# Altium schematic symbol library Converter_ACDC.SchLib: 233 symbols (part 2 of 3)
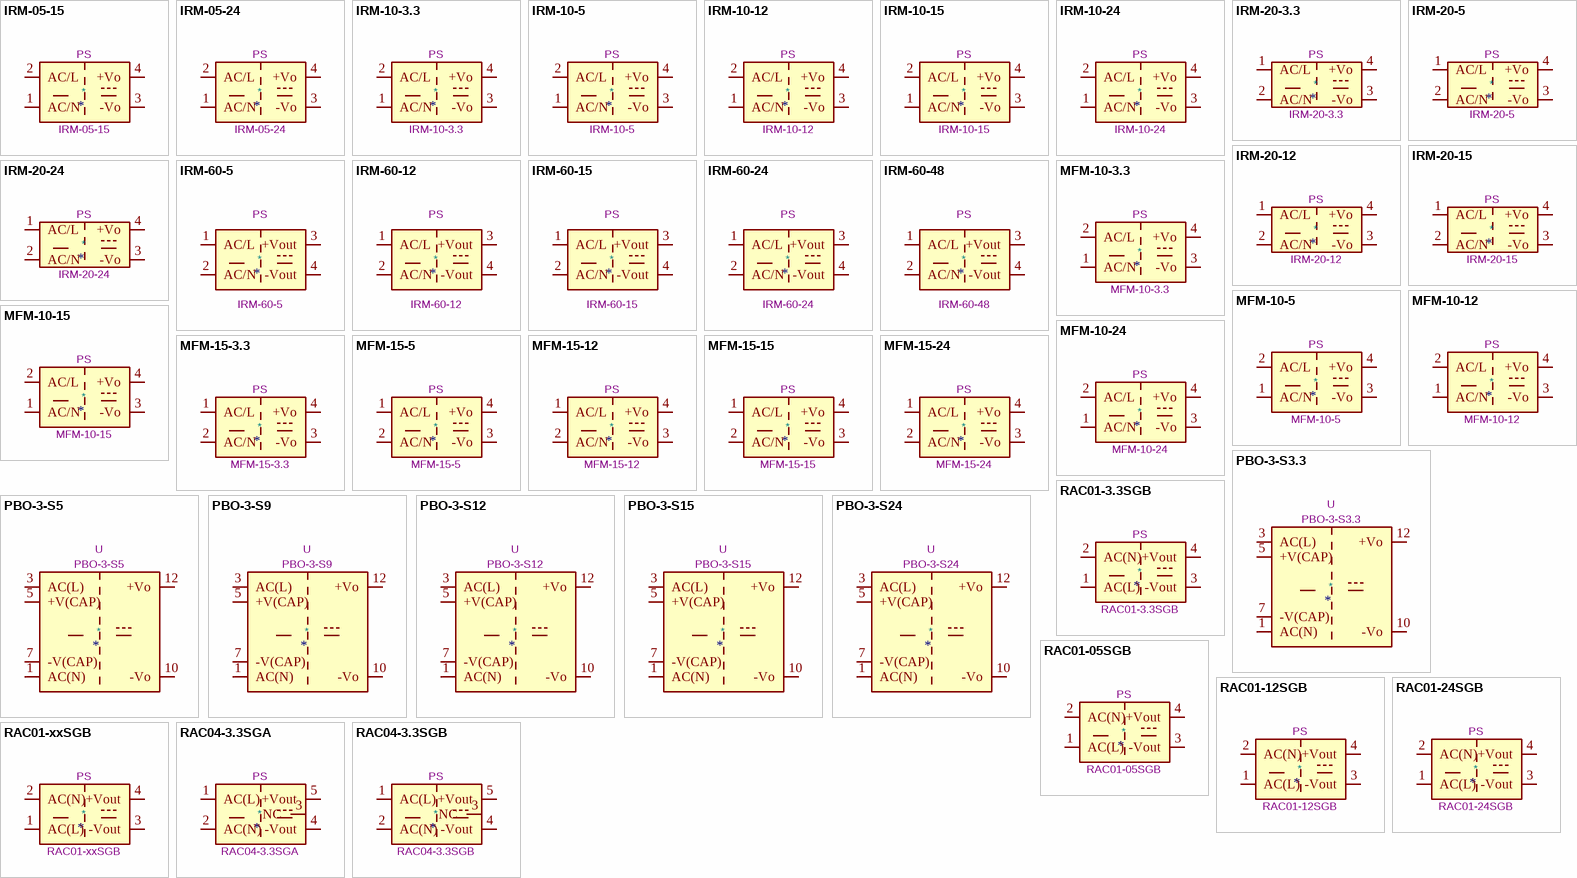
[diagram p6: symbols IRM-05-15 to RAC04-3.3SGB]

## MFM-10-5
designator *  value MFM-10-5  Reference: PS
Meanwell AC/DC converter, 80-264VAC, output 5V, 10 watts; ki_keywords: Miniature Module-type Power Supply MeanWell; ki_fp_filters: Converter*ACDC*MeanWell*MFM*10*THT*; Footprint: Converter_ACDC:Converter_ACDC_MeanWell_MFM-10-xx_THT; Datasheet: https://www.meanwell-web.com/content/files/pdfs/productPdfs/MW/MFM-10/MFM-10-spec.pdf; Description_: Meanwell AC/DC converter, 80-264VAC, output 5V, 10 watts
pins: 1 AC/N, 2 AC/L, 3 -Vo, 4 +Vo

## MFM-10-12
designator *  value MFM-10-12  Reference: PS
Meanwell AC/DC converter, 80-264VAC, output 12V, 10 watts; ki_keywords: Miniature Module-type Power Supply MeanWell; ki_fp_filters: Converter*ACDC*MeanWell*MFM*10*THT*; Footprint: Converter_ACDC:Converter_ACDC_MeanWell_MFM-10-xx_THT; Datasheet: https://www.meanwell-web.com/content/files/pdfs/productPdfs/MW/MFM-10/MFM-10-spec.pdf; Description_: Meanwell AC/DC converter, 80-264VAC, output 12V, 10 watts
pins: 1 AC/N, 2 AC/L, 3 -Vo, 4 +Vo

## MFM-10-15
designator *  value MFM-10-15  Reference: PS
Meanwell AC/DC converter, 80-264VAC, output 15V, 10 watts; ki_keywords: Miniature Module-type Power Supply MeanWell; ki_fp_filters: Converter*ACDC*MeanWell*MFM*10*THT*; Footprint: Converter_ACDC:Converter_ACDC_MeanWell_MFM-10-xx_THT; Datasheet: https://www.meanwell-web.com/content/files/pdfs/productPdfs/MW/MFM-10/MFM-10-spec.pdf; Description_: Meanwell AC/DC converter, 80-264VAC, output 15V, 10 watts
pins: 1 AC/N, 2 AC/L, 3 -Vo, 4 +Vo

## MFM-10-24
designator *  value MFM-10-24  Reference: PS
Meanwell AC/DC converter, 80-264VAC, output 24V, 10 watts; ki_keywords: Miniature Module-type Power Supply MeanWell; ki_fp_filters: Converter*ACDC*MeanWell*MFM*10*THT*; Footprint: Converter_ACDC:Converter_ACDC_MeanWell_MFM-10-xx_THT; Datasheet: https://www.meanwell-web.com/content/files/pdfs/productPdfs/MW/MFM-10/MFM-10-spec.pdf; Description_: Meanwell AC/DC converter, 80-264VAC, output 24V, 10 watts
pins: 1 AC/N, 2 AC/L, 3 -Vo, 4 +Vo

## MFM-15-3.3
designator *  value MFM-15-3.3  Reference: PS
Meanwell AC/DC converter, 80-264VAC, output 3.3V, 15 watts; ki_keywords: Miniature Module-type Power Supply MeanWell; ki_fp_filters: Converter*ACDC*MeanWell*MFM*15*THT*; Footprint: Converter_ACDC:Converter_ACDC_MeanWell_MFM-15-xx_THT; Datasheet: https://www.meanwell.com/Upload/PDF/MFM-15/MFM-15-SPEC.PDF; Description_: Meanwell AC/DC converter, 80-264VAC, output 3.3V, 15 watts
pins: 1 AC/L, 2 AC/N, 3 -Vo, 4 +Vo

## MFM-15-5
designator *  value MFM-15-5  Reference: PS
Meanwell AC/DC converter, 80-264VAC, output 5V, 15 watts; ki_keywords: Miniature Module-type Power Supply MeanWell; ki_fp_filters: Converter*ACDC*MeanWell*MFM*15*THT*; Footprint: Converter_ACDC:Converter_ACDC_MeanWell_MFM-15-xx_THT; Datasheet: https://www.meanwell.com/Upload/PDF/MFM-15/MFM-15-SPEC.PDF; Description_: Meanwell AC/DC converter, 80-264VAC, output 5V, 15 watts
pins: 1 AC/L, 2 AC/N, 3 -Vo, 4 +Vo

## MFM-15-12
designator *  value MFM-15-12  Reference: PS
Meanwell AC/DC converter, 80-264VAC, output 12V, 15 watts; ki_keywords: Miniature Module-type Power Supply MeanWell; ki_fp_filters: Converter*ACDC*MeanWell*MFM*15*THT*; Footprint: Converter_ACDC:Converter_ACDC_MeanWell_MFM-15-xx_THT; Datasheet: https://www.meanwell.com/Upload/PDF/MFM-15/MFM-15-SPEC.PDF; Description_: Meanwell AC/DC converter, 80-264VAC, output 12V, 15 watts
pins: 1 AC/L, 2 AC/N, 3 -Vo, 4 +Vo

## MFM-15-15
designator *  value MFM-15-15  Reference: PS
Meanwell AC/DC converter, 80-264VAC, output 15V, 15 watts; ki_keywords: Miniature Module-type Power Supply MeanWell; ki_fp_filters: Converter*ACDC*MeanWell*MFM*15*THT*; Footprint: Converter_ACDC:Converter_ACDC_MeanWell_MFM-15-xx_THT; Datasheet: https://www.meanwell.com/Upload/PDF/MFM-15/MFM-15-SPEC.PDF; Description_: Meanwell AC/DC converter, 80-264VAC, output 15V, 15 watts
pins: 1 AC/L, 2 AC/N, 3 -Vo, 4 +Vo

## MFM-15-24
designator *  value MFM-15-24  Reference: PS
Meanwell AC/DC converter, 80-264VAC, output 24V, 15 watts; ki_keywords: Miniature Module-type Power Supply MeanWell; ki_fp_filters: Converter*ACDC*MeanWell*MFM*15*THT*; Footprint: Converter_ACDC:Converter_ACDC_MeanWell_MFM-15-xx_THT; Datasheet: https://www.meanwell.com/Upload/PDF/MFM-15/MFM-15-SPEC.PDF; Description_: Meanwell AC/DC converter, 80-264VAC, output 24V, 15 watts
pins: 1 AC/L, 2 AC/N, 3 -Vo, 4 +Vo

## PBO-3-S3.3
designator *  value PBO-3-S3.3  Reference: U
3.3V 0.6A 1.98W miniature AC-DC module-type power supply; ki_keywords: ac dc power supply; ki_fp_filters: Converter*ACDC*CUI*PBO*3*Sxx*THT*; Footprint: Converter_ACDC:Converter_ACDC_CUI_PBO-3-Sxx_THT_Vertical; Datasheet: https://www.cui.com/product/resource/pbo-3.pdf; Description_: 3.3V 0.6A 1.98W miniature AC-DC module-type power supply
pins: 1 AC(N), 3 AC(L), 5 +V(CAP), 7 -V(CAP), 10 -Vo, 12 +Vo

## PBO-3-S5
designator *  value PBO-3-S5  Reference: U
5V 0.6A 3W miniature AC-DC module-type power supply; ki_keywords: ac dc power supply; ki_fp_filters: Converter*ACDC*CUI*PBO*3*Sxx*THT*; Footprint: Converter_ACDC:Converter_ACDC_CUI_PBO-3-Sxx_THT_Vertical; Datasheet: https://www.cui.com/product/resource/pbo-3.pdf; Description_: 5V 0.6A 3W miniature AC-DC module-type power supply
pins: 1 AC(N), 3 AC(L), 5 +V(CAP), 7 -V(CAP), 10 -Vo, 12 +Vo

## PBO-3-S9
designator *  value PBO-3-S9  Reference: U
9V 0.333A 3W miniature AC-DC module-type power supply; ki_keywords: ac dc power supply; ki_fp_filters: Converter*ACDC*CUI*PBO*3*Sxx*THT*; Footprint: Converter_ACDC:Converter_ACDC_CUI_PBO-3-Sxx_THT_Vertical; Datasheet: https://www.cui.com/product/resource/pbo-3.pdf; Description_: 9V 0.333A 3W miniature AC-DC module-type power supply
pins: 1 AC(N), 3 AC(L), 5 +V(CAP), 7 -V(CAP), 10 -Vo, 12 +Vo

## PBO-3-S12
designator *  value PBO-3-S12  Reference: U
12V 0.25A 3W miniature AC-DC module-type power supply; ki_keywords: ac dc power supply; ki_fp_filters: Converter*ACDC*CUI*PBO*3*Sxx*THT*; Footprint: Converter_ACDC:Converter_ACDC_CUI_PBO-3-Sxx_THT_Vertical; Datasheet: https://www.cui.com/product/resource/pbo-3.pdf; Description_: 12V 0.25A 3W miniature AC-DC module-type power supply
pins: 1 AC(N), 3 AC(L), 5 +V(CAP), 7 -V(CAP), 10 -Vo, 12 +Vo

## PBO-3-S15
designator *  value PBO-3-S15  Reference: U
15V 0.2A 3W miniature AC-DC module-type power supply; ki_keywords: ac dc power supply; ki_fp_filters: Converter*ACDC*CUI*PBO*3*Sxx*THT*; Footprint: Converter_ACDC:Converter_ACDC_CUI_PBO-3-Sxx_THT_Vertical; Datasheet: https://www.cui.com/product/resource/pbo-3.pdf; Description_: 15V 0.2A 3W miniature AC-DC module-type power supply
pins: 1 AC(N), 3 AC(L), 5 +V(CAP), 7 -V(CAP), 10 -Vo, 12 +Vo

## PBO-3-S24
designator *  value PBO-3-S24  Reference: U
24V 0.125A 3W miniature AC-DC module-type power supply; ki_keywords: ac dc power supply; ki_fp_filters: Converter*ACDC*CUI*PBO*3*Sxx*THT*; Footprint: Converter_ACDC:Converter_ACDC_CUI_PBO-3-Sxx_THT_Vertical; Datasheet: https://www.cui.com/product/resource/pbo-3.pdf; Description_: 24V 0.125A 3W miniature AC-DC module-type power supply
pins: 1 AC(N), 3 AC(L), 5 +V(CAP), 7 -V(CAP), 10 -Vo, 12 +Vo

## RAC01-3.3SGB
designator *  value RAC01-3.3SGB  Reference: PS
1 Watt Single Output EMC Class B AC/DC 3.3V 303mA power supply with regulated and short-circuit-proof isolated DC outputs and low standby power consumption.; ki_keywords: ac dc power supply; ki_fp_filters: Converter*ACDC*RECOM*RAC01*SGB*THT*; Footprint: Converter_ACDC:Converter_ACDC_RECOM_RAC01-xxSGB_THT; Datasheet: https://www.recom-power.com/pdf/Powerline-AC-DC/RAC01-GB.pdf; Description_: 1 Watt Single Output EMC Class B AC/DC 3.3V 303mA power supply with regulated and short-circuit-proof isolated DC outputs and low standby power consumption.
pins: 1 AC(L), 2 AC(N), 3 -Vout, 4 +Vout

## RAC01-05SGB
designator *  value RAC01-05SGB  Reference: PS
1 Watt Single Output EMC Class B AC/DC 5V 200mA power supply with regulated and short-circuit-proof isolated DC outputs and low standby power consumption.; ki_keywords: ac dc power supply; ki_fp_filters: Converter*ACDC*RECOM*RAC01*SGB*THT*; Footprint: Converter_ACDC:Converter_ACDC_RECOM_RAC01-xxSGB_THT; Datasheet: https://www.recom-power.com/pdf/Powerline-AC-DC/RAC01-GB.pdf; Description_: 1 Watt Single Output EMC Class B AC/DC 5V 200mA power supply with regulated and short-circuit-proof isolated DC outputs and low standby power consumption.
pins: 1 AC(L), 2 AC(N), 3 -Vout, 4 +Vout

## RAC01-12SGB
designator *  value RAC01-12SGB  Reference: PS
1 Watt Single Output EMC Class B AC/DC 12V 83mA power supply with regulated and short-circuit-proof isolated DC outputs and low standby power consumption.; ki_keywords: ac dc power supply; ki_fp_filters: Converter*ACDC*RECOM*RAC01*SGB*THT*; Footprint: Converter_ACDC:Converter_ACDC_RECOM_RAC01-xxSGB_THT; Datasheet: https://www.recom-power.com/pdf/Powerline-AC-DC/RAC01-GB.pdf; Description_: 1 Watt Single Output EMC Class B AC/DC 12V 83mA power supply with regulated and short-circuit-proof isolated DC outputs and low standby power consumption.
pins: 1 AC(L), 2 AC(N), 3 -Vout, 4 +Vout

## RAC01-24SGB
designator *  value RAC01-24SGB  Reference: PS
1 Watt Single Output EMC Class B AC/DC 24V 42mA power supply with regulated and short-circuit-proof isolated DC outputs and low standby power consumption.; ki_keywords: ac dc power supply; ki_fp_filters: Converter*ACDC*RECOM*RAC01*SGB*THT*; Footprint: Converter_ACDC:Converter_ACDC_RECOM_RAC01-xxSGB_THT; Datasheet: https://www.recom-power.com/pdf/Powerline-AC-DC/RAC01-GB.pdf; Description_: 1 Watt Single Output EMC Class B AC/DC 24V 42mA power supply with regulated and short-circuit-proof isolated DC outputs and low standby power consumption.
pins: 1 AC(L), 2 AC(N), 3 -Vout, 4 +Vout

## RAC01-xxSGB
designator *  value RAC01-xxSGB  Reference: PS
1 Watt Single Output EMC Class B AC/DC power supply with regulated and short-circuit-proof isolated DC outputs and low standby power consumption.; ki_keywords: ac dc power supply; ki_fp_filters: Converter*ACDC*RECOM*RAC01*SGB*THT*; Footprint: Converter_ACDC:Converter_ACDC_RECOM_RAC01-xxSGB_THT; Datasheet: https://www.recom-power.com/pdf/Powerline-AC-DC/RAC01-GB.pdf; Description_: 1 Watt Single Output EMC Class B AC/DC power supply with regulated and short-circuit-proof isolated DC outputs and low standby power consumption.
pins: 1 AC(L), 2 AC(N), 3 -Vout, 4 +Vout

## RAC04-3.3SGA
designator *  value RAC04-3.3SGA  Reference: PS
4 Watt Single Output EMC Class A - 3.3V 1210mA; ki_keywords: ac dc power supply; ki_fp_filters: Converter*ACDC*RECOM*RAC04*SG*; Footprint: Converter_ACDC:Converter_ACDC_RECOM_RAC04-xxSGx_THT; Datasheet: https://www.recom-power.com/pdf/Powerline-AC-DC/RAC04-GA.pdf; Description_: 4 Watt Single Output EMC Class A - 3.3V 1210mA
pins: 1 AC(L), 2 AC(N), 3 NC, 4 -Vout, 5 +Vout

## RAC04-3.3SGB
designator *  value RAC04-3.3SGB  Reference: PS
4 Watt Single Output EMC Class B - 3.3V 1210mA; ki_keywords: ac dc power supply; ki_fp_filters: Converter*ACDC*RECOM*RAC04*SG*; Footprint: Converter_ACDC:Converter_ACDC_RECOM_RAC04-xxSGx_THT; Datasheet: https://www.recom-power.com/pdf/Powerline-AC-DC/RAC04-GB.pdf; Description_: 4 Watt Single Output EMC Class B - 3.3V 1210mA
pins: 1 AC(L), 2 AC(N), 3 NC, 4 -Vout, 5 +Vout

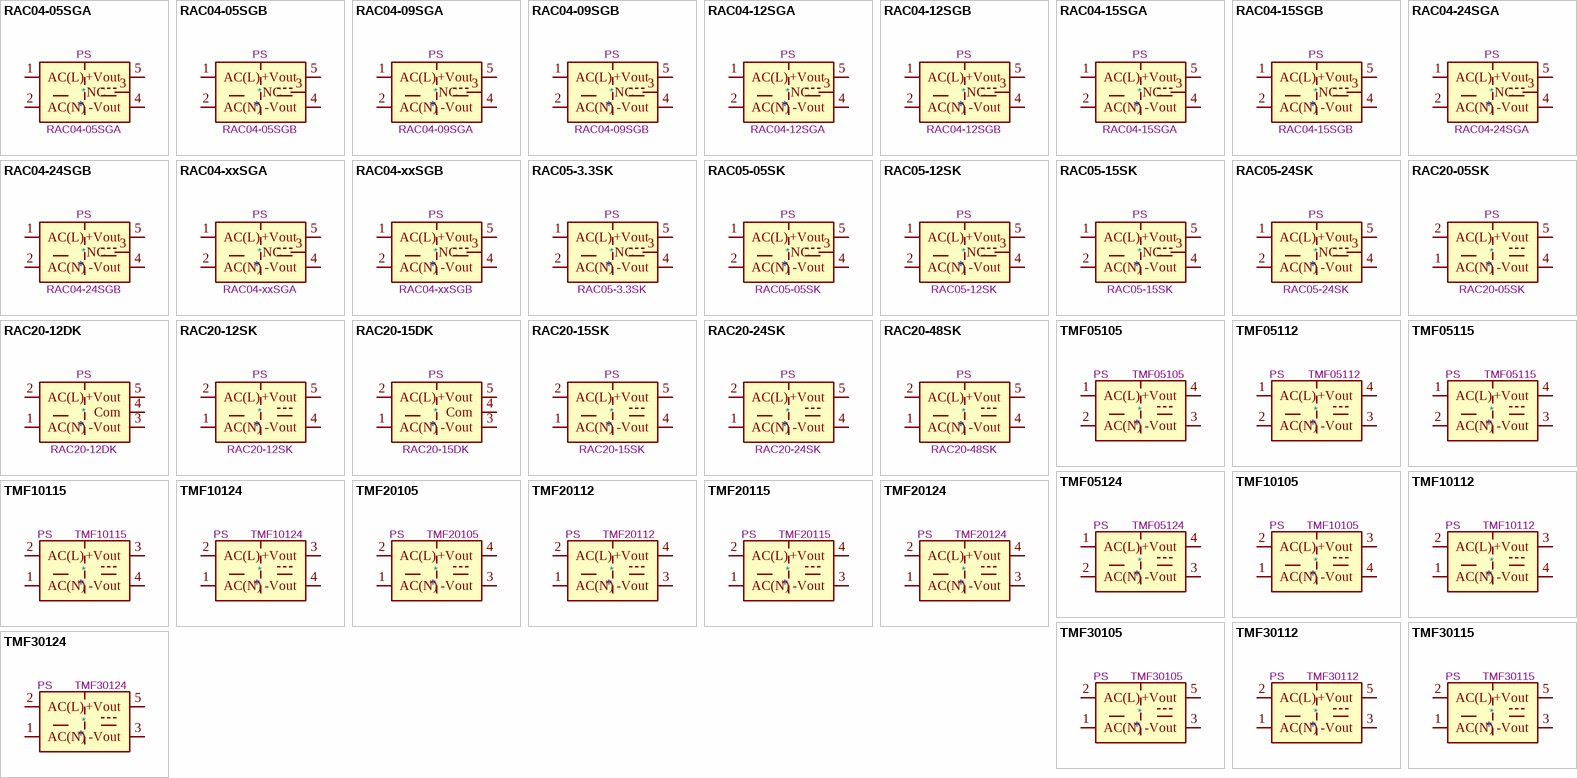
[diagram p3: symbols RAC04-05SGA to TMF30124]

## RAC04-05SGA
designator *  value RAC04-05SGA  Reference: PS
4 Watt Single Output EMC Class A - 5V 800mA; ki_keywords: ac dc power supply; ki_fp_filters: Converter*ACDC*RECOM*RAC04*SG*; Footprint: Converter_ACDC:Converter_ACDC_RECOM_RAC04-xxSGx_THT; Datasheet: https://www.recom-power.com/pdf/Powerline-AC-DC/RAC04-GA.pdf; Description_: 4 Watt Single Output EMC Class A - 5V 800mA
pins: 1 AC(L), 2 AC(N), 3 NC, 4 -Vout, 5 +Vout

## RAC04-05SGB
designator *  value RAC04-05SGB  Reference: PS
4 Watt Single Output EMC Class B - 5V 800mA; ki_keywords: ac dc power supply; ki_fp_filters: Converter*ACDC*RECOM*RAC04*SG*; Footprint: Converter_ACDC:Converter_ACDC_RECOM_RAC04-xxSGx_THT; Datasheet: https://www.recom-power.com/pdf/Powerline-AC-DC/RAC04-GB.pdf; Description_: 4 Watt Single Output EMC Class B - 5V 800mA
pins: 1 AC(L), 2 AC(N), 3 NC, 4 -Vout, 5 +Vout

## RAC04-09SGA
designator *  value RAC04-09SGA  Reference: PS
4 Watt Single Output EMC Class A - 9V 440mA; ki_keywords: ac dc power supply; ki_fp_filters: Converter*ACDC*RECOM*RAC04*SG*; Footprint: Converter_ACDC:Converter_ACDC_RECOM_RAC04-xxSGx_THT; Datasheet: https://www.recom-power.com/pdf/Powerline-AC-DC/RAC04-GA.pdf; Description_: 4 Watt Single Output EMC Class A - 9V 440mA
pins: 1 AC(L), 2 AC(N), 3 NC, 4 -Vout, 5 +Vout

## RAC04-09SGB
designator *  value RAC04-09SGB  Reference: PS
4 Watt Single Output EMC Class B - 9V 440mA; ki_keywords: ac dc power supply; ki_fp_filters: Converter*ACDC*RECOM*RAC04*SG*; Footprint: Converter_ACDC:Converter_ACDC_RECOM_RAC04-xxSGx_THT; Datasheet: https://www.recom-power.com/pdf/Powerline-AC-DC/RAC04-GB.pdf; Description_: 4 Watt Single Output EMC Class B - 9V 440mA
pins: 1 AC(L), 2 AC(N), 3 NC, 4 -Vout, 5 +Vout

## RAC04-12SGA
designator *  value RAC04-12SGA  Reference: PS
4 Watt Single Output EMC Class A - 12V 330mA; ki_keywords: ac dc power supply; ki_fp_filters: Converter*ACDC*RECOM*RAC04*SG*; Footprint: Converter_ACDC:Converter_ACDC_RECOM_RAC04-xxSGx_THT; Datasheet: https://www.recom-power.com/pdf/Powerline-AC-DC/RAC04-GA.pdf; Description_: 4 Watt Single Output EMC Class A - 12V 330mA
pins: 1 AC(L), 2 AC(N), 3 NC, 4 -Vout, 5 +Vout

## RAC04-12SGB
designator *  value RAC04-12SGB  Reference: PS
4 Watt Single Output EMC Class B - 12V 330mA; ki_keywords: ac dc power supply; ki_fp_filters: Converter*ACDC*RECOM*RAC04*SG*; Footprint: Converter_ACDC:Converter_ACDC_RECOM_RAC04-xxSGx_THT; Datasheet: https://www.recom-power.com/pdf/Powerline-AC-DC/RAC04-GB.pdf; Description_: 4 Watt Single Output EMC Class B - 12V 330mA
pins: 1 AC(L), 2 AC(N), 3 NC, 4 -Vout, 5 +Vout

## RAC04-15SGA
designator *  value RAC04-15SGA  Reference: PS
4 Watt Single Output EMC Class A - 15V 270mA; ki_keywords: ac dc power supply; ki_fp_filters: Converter*ACDC*RECOM*RAC04*SG*; Footprint: Converter_ACDC:Converter_ACDC_RECOM_RAC04-xxSGx_THT; Datasheet: https://www.recom-power.com/pdf/Powerline-AC-DC/RAC04-GA.pdf; Description_: 4 Watt Single Output EMC Class A - 15V 270mA
pins: 1 AC(L), 2 AC(N), 3 NC, 4 -Vout, 5 +Vout

## RAC04-15SGB
designator *  value RAC04-15SGB  Reference: PS
4 Watt Single Output EMC Class B - 15V 270mA; ki_keywords: ac dc power supply; ki_fp_filters: Converter*ACDC*RECOM*RAC04*SG*; Footprint: Converter_ACDC:Converter_ACDC_RECOM_RAC04-xxSGx_THT; Datasheet: https://www.recom-power.com/pdf/Powerline-AC-DC/RAC04-GB.pdf; Description_: 4 Watt Single Output EMC Class B - 15V 270mA
pins: 1 AC(L), 2 AC(N), 3 NC, 4 -Vout, 5 +Vout

## RAC04-24SGA
designator *  value RAC04-24SGA  Reference: PS
4 Watt Single Output EMC Class A - 24V 170mA; ki_keywords: ac dc power supply; ki_fp_filters: Converter*ACDC*RECOM*RAC04*SG*; Footprint: Converter_ACDC:Converter_ACDC_RECOM_RAC04-xxSGx_THT; Datasheet: https://www.recom-power.com/pdf/Powerline-AC-DC/RAC04-GA.pdf; Description_: 4 Watt Single Output EMC Class A - 24V 170mA
pins: 1 AC(L), 2 AC(N), 3 NC, 4 -Vout, 5 +Vout

## RAC04-24SGB
designator *  value RAC04-24SGB  Reference: PS
4 Watt Single Output EMC Class B - 24V 170mA; ki_keywords: ac dc power supply; ki_fp_filters: Converter*ACDC*RECOM*RAC04*SG*; Footprint: Converter_ACDC:Converter_ACDC_RECOM_RAC04-xxSGx_THT; Datasheet: https://www.recom-power.com/pdf/Powerline-AC-DC/RAC04-GB.pdf; Description_: 4 Watt Single Output EMC Class B - 24V 170mA
pins: 1 AC(L), 2 AC(N), 3 NC, 4 -Vout, 5 +Vout

## RAC04-xxSGA
designator *  value RAC04-xxSGA  Reference: PS
4 Watt Single Output EMC Class A; ki_keywords: ac dc power supply; ki_fp_filters: Converter*ACDC*RECOM*RAC04*SG*; Footprint: Converter_ACDC:Converter_ACDC_RECOM_RAC04-xxSGx_THT; Datasheet: https://www.recom-power.com/pdf/Powerline-AC-DC/RAC04-GA.pdf; Description_: 4 Watt Single Output EMC Class A
pins: 1 AC(L), 2 AC(N), 3 NC, 4 -Vout, 5 +Vout

## RAC04-xxSGB
designator *  value RAC04-xxSGB  Reference: PS
4 Watt Single Output EMC Class B; ki_keywords: ac dc power supply; ki_fp_filters: Converter*ACDC*RECOM*RAC04*SG*; Footprint: Converter_ACDC:Converter_ACDC_RECOM_RAC04-xxSGx_THT; Datasheet: https://www.recom-power.com/pdf/Powerline-AC-DC/RAC04-GB.pdf; Description_: 4 Watt Single Output EMC Class B
pins: 1 AC(L), 2 AC(N), 3 NC, 4 -Vout, 5 +Vout

## RAC05-3.3SK
designator *  value RAC05-3.3SK  Reference: PS
5W Single Output EMC Class B 3.3V 1515mA; ki_keywords: ac dc power supply; ki_fp_filters: Converter*ACDC*RECOM*RAC05*SK*; Footprint: Converter_ACDC:Converter_ACDC_RECOM_RAC05-xxSK_THT; Datasheet: https://www.recom-power.com/pdf/Powerline-AC-DC/RAC05-K.pdf; Description_: 5W Single Output EMC Class B 3.3V 1515mA
pins: 1 AC(L), 2 AC(N), 3 NC, 4 -Vout, 5 +Vout

## RAC05-05SK
designator *  value RAC05-05SK  Reference: PS
5W Single Output EMC Class B 5V 1000mA; ki_keywords: ac dc power supply; ki_fp_filters: Converter*ACDC*RECOM*RAC05*SK*; Footprint: Converter_ACDC:Converter_ACDC_RECOM_RAC05-xxSK_THT; Datasheet: https://www.recom-power.com/pdf/Powerline-AC-DC/RAC05-K.pdf; Description_: 5W Single Output EMC Class B 5V 1000mA
pins: 1 AC(L), 2 AC(N), 3 NC, 4 -Vout, 5 +Vout

## RAC05-12SK
designator *  value RAC05-12SK  Reference: PS
5W Single Output EMC Class B 12V 416mA; ki_keywords: ac dc power supply; ki_fp_filters: Converter*ACDC*RECOM*RAC05*SK*; Footprint: Converter_ACDC:Converter_ACDC_RECOM_RAC05-xxSK_THT; Datasheet: https://www.recom-power.com/pdf/Powerline-AC-DC/RAC05-K.pdf; Description_: 5W Single Output EMC Class B 12V 416mA
pins: 1 AC(L), 2 AC(N), 3 NC, 4 -Vout, 5 +Vout

## RAC05-15SK
designator *  value RAC05-15SK  Reference: PS
5W Single Output EMC Class B 15V 333mA; ki_keywords: ac dc power supply; ki_fp_filters: Converter*ACDC*RECOM*RAC05*SK*; Footprint: Converter_ACDC:Converter_ACDC_RECOM_RAC05-xxSK_THT; Datasheet: https://www.recom-power.com/pdf/Powerline-AC-DC/RAC05-K.pdf; Description_: 5W Single Output EMC Class B 15V 333mA
pins: 1 AC(L), 2 AC(N), 3 NC, 4 -Vout, 5 +Vout

## RAC05-24SK
designator *  value RAC05-24SK  Reference: PS
5W Single Output EMC Class B 24V 210mA; ki_keywords: ac dc power supply; ki_fp_filters: Converter*ACDC*RECOM*RAC05*SK*; Footprint: Converter_ACDC:Converter_ACDC_RECOM_RAC05-xxSK_THT; Datasheet: https://www.recom-power.com/pdf/Powerline-AC-DC/RAC05-K.pdf; Description_: 5W Single Output EMC Class B 24V 210mA
pins: 1 AC(L), 2 AC(N), 3 NC, 4 -Vout, 5 +Vout

## RAC20-05SK
designator *  value RAC20-05SK  Reference: PS
20 Watt Single Output AC/DC power supply 5V 4000mA; ki_keywords: ac dc power supply; ki_fp_filters: Converter*ACDC*Recom*RAC20*SK*THT*; Footprint: Converter_ACDC:Converter_ACDC_Recom_RAC20-xxSK_THT; Datasheet: https://recom-power.com/pdf/Powerline_AC-DC/RAC20-K.pdf; Description_: 20 Watt Single Output AC/DC power supply 5V 4000mA
pins: 1 AC(N), 2 AC(L), 4 -Vout, 5 +Vout

## RAC20-12DK
designator *  value RAC20-12DK  Reference: PS
20 Watt Dual Output AC/DC power supply ±12V ±833mA; ki_keywords: ac dc power supply; ki_fp_filters: Converter*ACDC*Recom*RAC20*DK*THT*; Footprint: Converter_ACDC:Converter_ACDC_Recom_RAC20-xxDK_THT; Datasheet: https://recom-power.com/pdf/Powerline_AC-DC/RAC20-K.pdf; Description_: 20 Watt Dual Output AC/DC power supply ±12V ±833mA
pins: 1 AC(N), 2 AC(L), 3 -Vout, 4 Com, 5 +Vout

## RAC20-12SK
designator *  value RAC20-12SK  Reference: PS
20 Watt Single Output AC/DC power supply 12V 1670mA; ki_keywords: ac dc power supply; ki_fp_filters: Converter*ACDC*Recom*RAC20*SK*THT*; Footprint: Converter_ACDC:Converter_ACDC_Recom_RAC20-xxSK_THT; Datasheet: https://recom-power.com/pdf/Powerline_AC-DC/RAC20-K.pdf; Description_: 20 Watt Single Output AC/DC power supply 12V 1670mA
pins: 1 AC(N), 2 AC(L), 4 -Vout, 5 +Vout

## RAC20-15DK
designator *  value RAC20-15DK  Reference: PS
20 Watt Dual Output AC/DC power supply ±15V ±670mA; ki_keywords: ac dc power supply; ki_fp_filters: Converter*ACDC*Recom*RAC20*DK*THT*; Footprint: Converter_ACDC:Converter_ACDC_Recom_RAC20-xxDK_THT; Datasheet: https://recom-power.com/pdf/Powerline_AC-DC/RAC20-K.pdf; Description_: 20 Watt Dual Output AC/DC power supply ±15V ±670mA
pins: 1 AC(N), 2 AC(L), 3 -Vout, 4 Com, 5 +Vout

## RAC20-15SK
designator *  value RAC20-15SK  Reference: PS
20 Watt Single Output AC/DC power supply 15V 1333mA; ki_keywords: ac dc power supply; ki_fp_filters: Converter*ACDC*Recom*RAC20*SK*THT*; Footprint: Converter_ACDC:Converter_ACDC_Recom_RAC20-xxSK_THT; Datasheet: https://recom-power.com/pdf/Powerline_AC-DC/RAC20-K.pdf; Description_: 20 Watt Single Output AC/DC power supply 15V 1333mA
pins: 1 AC(N), 2 AC(L), 4 -Vout, 5 +Vout

## RAC20-24SK
designator *  value RAC20-24SK  Reference: PS
20 Watt Single Output AC/DC power supply 24V 840mA; ki_keywords: ac dc power supply; ki_fp_filters: Converter*ACDC*Recom*RAC20*SK*THT*; Footprint: Converter_ACDC:Converter_ACDC_Recom_RAC20-xxSK_THT; Datasheet: https://recom-power.com/pdf/Powerline_AC-DC/RAC20-K.pdf; Description_: 20 Watt Single Output AC/DC power supply 24V 840mA
pins: 1 AC(N), 2 AC(L), 4 -Vout, 5 +Vout

## RAC20-48SK
designator *  value RAC20-48SK  Reference: PS
20 Watt Single Output AC/DC power supply 48V 420mA; ki_keywords: ac dc power supply; ki_fp_filters: Converter*ACDC*Recom*RAC20*SK*THT*; Footprint: Converter_ACDC:Converter_ACDC_Recom_RAC20-xxSK_THT; Datasheet: https://recom-power.com/pdf/Powerline_AC-DC/RAC20-K.pdf; Description_: 20 Watt Single Output AC/DC power supply 48V 420mA
pins: 1 AC(N), 2 AC(L), 4 -Vout, 5 +Vout

## TMF05105
designator *  value TMF05105  Reference: PS
5W AC/DC power supply, 5V fixed output voltage, 1A output, 4.0kVAC isolation; ki_keywords: Traco isolated isolation ac-dc AC/DC medical power-supply 5W; ki_fp_filters: Converter*ACDC*TRACO*TMF*051xx*THT*; Footprint: Converter_ACDC:Converter_ACDC_TRACO_TMF_051xx_THT; Datasheet: https://www.tracopower.com/products/tmf05.pdf; Description_: 5W AC/DC power supply, 5V fixed output voltage, 1A output, 4.0kVAC isolation
pins: 1 AC(L), 2 AC(N), 3 -Vout, 4 +Vout

## TMF05112
designator *  value TMF05112  Reference: PS
5W AC/DC power supply, 12V fixed output voltage, 417mA output, 4.0kVAC isolation; ki_keywords: Traco isolated isolation ac-dc AC/DC medical power-supply 5W; ki_fp_filters: Converter*ACDC*TRACO*TMF*051xx*THT*; Footprint: Converter_ACDC:Converter_ACDC_TRACO_TMF_051xx_THT; Datasheet: https://www.tracopower.com/products/tmf05.pdf; Description_: 5W AC/DC power supply, 12V fixed output voltage, 417mA output, 4.0kVAC isolation
pins: 1 AC(L), 2 AC(N), 3 -Vout, 4 +Vout

## TMF05115
designator *  value TMF05115  Reference: PS
5W AC/DC power supply, 15V fixed output voltage, 333mA output, 4.0kVAC isolation; ki_keywords: Traco isolated isolation ac-dc AC/DC medical power-supply 5W; ki_fp_filters: Converter*ACDC*TRACO*TMF*051xx*THT*; Footprint: Converter_ACDC:Converter_ACDC_TRACO_TMF_051xx_THT; Datasheet: https://www.tracopower.com/products/tmf05.pdf; Description_: 5W AC/DC power supply, 15V fixed output voltage, 333mA output, 4.0kVAC isolation
pins: 1 AC(L), 2 AC(N), 3 -Vout, 4 +Vout

## TMF05124
designator *  value TMF05124  Reference: PS
5W AC/DC power supply, 24V fixed output voltage, 208mA output, 4.0kVAC isolation; ki_keywords: Traco isolated isolation ac-dc AC/DC medical power-supply 5W; ki_fp_filters: Converter*ACDC*TRACO*TMF*051xx*THT*; Footprint: Converter_ACDC:Converter_ACDC_TRACO_TMF_051xx_THT; Datasheet: https://www.tracopower.com/products/tmf05.pdf; Description_: 5W AC/DC power supply, 24V fixed output voltage, 208mA output, 4.0kVAC isolation
pins: 1 AC(L), 2 AC(N), 3 -Vout, 4 +Vout

## TMF10105
designator *  value TMF10105  Reference: PS
10W AC/DC power supply, 5V fixed output voltage, 2A output, 4.0kVAC isolation; ki_keywords: Traco isolated isolation ac-dc AC/DC medical power-supply 10W; ki_fp_filters: Converter*ACDC*TRACO*TMF*101xx*THT*; Footprint: Converter_ACDC:Converter_ACDC_TRACO_TMF_101xx_THT; Datasheet: https://www.tracopower.com/products/tmf10.pdf; Description_: 10W AC/DC power supply, 5V fixed output voltage, 2A output, 4.0kVAC isolation
pins: 1 AC(N), 2 AC(L), 3 +Vout, 4 -Vout

## TMF10112
designator *  value TMF10112  Reference: PS
10W AC/DC power supply, 12V fixed output voltage, 833mA output, 4.0kVAC isolation; ki_keywords: Traco isolated isolation ac-dc AC/DC medical power-supply 10W; ki_fp_filters: Converter*ACDC*TRACO*TMF*101xx*THT*; Footprint: Converter_ACDC:Converter_ACDC_TRACO_TMF_101xx_THT; Datasheet: https://www.tracopower.com/products/tmf10.pdf; Description_: 10W AC/DC power supply, 12V fixed output voltage, 833mA output, 4.0kVAC isolation
pins: 1 AC(N), 2 AC(L), 3 +Vout, 4 -Vout

## TMF10115
designator *  value TMF10115  Reference: PS
10W AC/DC power supply, 15V fixed output voltage, 666mA output, 4.0kVAC isolation; ki_keywords: Traco isolated isolation ac-dc AC/DC medical power-supply 10W; ki_fp_filters: Converter*ACDC*TRACO*TMF*101xx*THT*; Footprint: Converter_ACDC:Converter_ACDC_TRACO_TMF_101xx_THT; Datasheet: https://www.tracopower.com/products/tmf10.pdf; Description_: 10W AC/DC power supply, 15V fixed output voltage, 666mA output, 4.0kVAC isolation
pins: 1 AC(N), 2 AC(L), 3 +Vout, 4 -Vout

## TMF10124
designator *  value TMF10124  Reference: PS
10W AC/DC power supply, 24V fixed output voltage, 417mA output, 4.0kVAC isolation; ki_keywords: Traco isolated isolation ac-dc AC/DC medical power-supply 10W; ki_fp_filters: Converter*ACDC*TRACO*TMF*101xx*THT*; Footprint: Converter_ACDC:Converter_ACDC_TRACO_TMF_101xx_THT; Datasheet: https://www.tracopower.com/products/tmf10.pdf; Description_: 10W AC/DC power supply, 24V fixed output voltage, 417mA output, 4.0kVAC isolation
pins: 1 AC(N), 2 AC(L), 3 +Vout, 4 -Vout

## TMF20105
designator *  value TMF20105  Reference: PS
18W AC/DC power supply, 5V fixed output voltage, 3.6A output, 4.0kVAC isolation; ki_keywords: Traco isolated isolation ac-dc AC/DC medical power-supply 18W; ki_fp_filters: Converter*ACDC*TRACO*TMF*201xx*THT*; Footprint: Converter_ACDC:Converter_ACDC_TRACO_TMF_201xx_THT; Datasheet: https://www.tracopower.com/products/tmf20.pdf; Description_: 18W AC/DC power supply, 5V fixed output voltage, 3.6A output, 4.0kVAC isolation
pins: 1 AC(N), 2 AC(L), 3 -Vout, 4 +Vout

## TMF20112
designator *  value TMF20112  Reference: PS
20W AC/DC power supply, 12V fixed output voltage, 1.667A output, 4.0kVAC isolation; ki_keywords: Traco isolated isolation ac-dc AC/DC medical power-supply 20W; ki_fp_filters: Converter*ACDC*TRACO*TMF*201xx*THT*; Footprint: Converter_ACDC:Converter_ACDC_TRACO_TMF_201xx_THT; Datasheet: https://www.tracopower.com/products/tmf20.pdf; Description_: 20W AC/DC power supply, 12V fixed output voltage, 1.667A output, 4.0kVAC isolation
pins: 1 AC(N), 2 AC(L), 3 -Vout, 4 +Vout

## TMF20115
designator *  value TMF20115  Reference: PS
20W AC/DC power supply, 15V fixed output voltage, 1.333A output, 4.0kVAC isolation; ki_keywords: Traco isolated isolation ac-dc AC/DC medical power-supply 20W; ki_fp_filters: Converter*ACDC*TRACO*TMF*201xx*THT*; Footprint: Converter_ACDC:Converter_ACDC_TRACO_TMF_201xx_THT; Datasheet: https://www.tracopower.com/products/tmf20.pdf; Description_: 20W AC/DC power supply, 15V fixed output voltage, 1.333A output, 4.0kVAC isolation
pins: 1 AC(N), 2 AC(L), 3 -Vout, 4 +Vout

## TMF20124
designator *  value TMF20124  Reference: PS
20W AC/DC power supply, 24V fixed output voltage, 833mA output, 4.0kVAC isolation; ki_keywords: Traco isolated isolation ac-dc AC/DC medical power-supply 20W; ki_fp_filters: Converter*ACDC*TRACO*TMF*201xx*THT*; Footprint: Converter_ACDC:Converter_ACDC_TRACO_TMF_201xx_THT; Datasheet: https://www.tracopower.com/products/tmf20.pdf; Description_: 20W AC/DC power supply, 24V fixed output voltage, 833mA output, 4.0kVAC isolation
pins: 1 AC(N), 2 AC(L), 3 -Vout, 4 +Vout

## TMF30105
designator *  value TMF30105  Reference: PS
25W AC/DC power supply, 5V fixed output voltage, 5A output, 4.0kVAC isolation; ki_keywords: Traco isolated isolation ac-dc AC/DC medical power-supply 25W; ki_fp_filters: Converter*ACDC*TRACO*TMF*301xx*THT*; Footprint: Converter_ACDC:Converter_ACDC_TRACO_TMF_301xx_THT; Datasheet: https://www.tracopower.com/products/tmf30.pdf; Description_: 25W AC/DC power supply, 5V fixed output voltage, 5A output, 4.0kVAC isolation
pins: 1 AC(N), 2 AC(L), 3 -Vout, 5 +Vout

## TMF30112
designator *  value TMF30112  Reference: PS
30W AC/DC power supply, 12V fixed output voltage, 2.5A output, 4.0kVAC isolation; ki_keywords: Traco isolated isolation ac-dc AC/DC medical power-supply 30W; ki_fp_filters: Converter*ACDC*TRACO*TMF*301xx*THT*; Footprint: Converter_ACDC:Converter_ACDC_TRACO_TMF_301xx_THT; Datasheet: https://www.tracopower.com/products/tmf30.pdf; Description_: 30W AC/DC power supply, 12V fixed output voltage, 2.5A output, 4.0kVAC isolation
pins: 1 AC(N), 2 AC(L), 3 -Vout, 5 +Vout

## TMF30115
designator *  value TMF30115  Reference: PS
30W AC/DC power supply, 15V fixed output voltage, 2A output, 4.0kVAC isolation; ki_keywords: Traco isolated isolation ac-dc AC/DC medical power-supply 30W; ki_fp_filters: Converter*ACDC*TRACO*TMF*301xx*THT*; Footprint: Converter_ACDC:Converter_ACDC_TRACO_TMF_301xx_THT; Datasheet: https://www.tracopower.com/products/tmf30.pdf; Description_: 30W AC/DC power supply, 15V fixed output voltage, 2A output, 4.0kVAC isolation
pins: 1 AC(N), 2 AC(L), 3 -Vout, 5 +Vout

## TMF30124
designator *  value TMF30124  Reference: PS
30W AC/DC power supply, 24V fixed output voltage, 1.25A output, 4.0kVAC isolation; ki_keywords: Traco isolated isolation ac-dc AC/DC medical power-supply 30W; ki_fp_filters: Converter*ACDC*TRACO*TMF*301xx*THT*; Footprint: Converter_ACDC:Converter_ACDC_TRACO_TMF_301xx_THT; Datasheet: https://www.tracopower.com/products/tmf30.pdf; Description_: 30W AC/DC power supply, 24V fixed output voltage, 1.25A output, 4.0kVAC isolation
pins: 1 AC(N), 2 AC(L), 3 -Vout, 5 +Vout

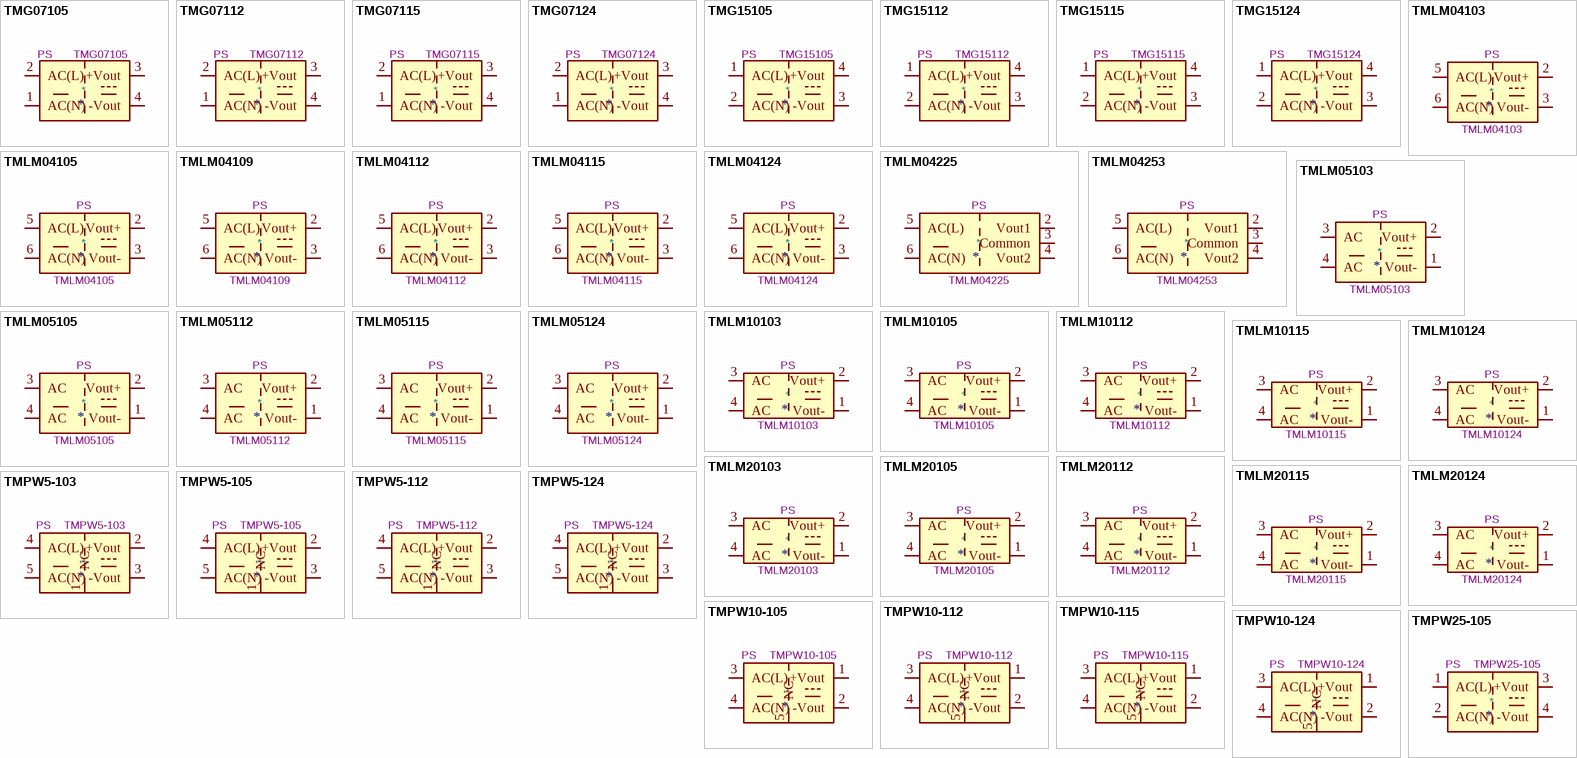
[diagram p4: symbols TMG07105 to TMPW25-105]

## TMG07105
designator *  value TMG07105  Reference: PS
6.3W AC/DC power supply, 5V fixed output voltage, 1.26A output, 3.0kVAC isolation; ki_keywords: Traco isolated ac-dc power-supply 62368-1 single; ki_fp_filters: Converter*ACDC*TRACO*TMG*071xx*THT*; Footprint: Converter_ACDC:Converter_ACDC_TRACO_TMG_071xx_THT; Datasheet: https://www.tracopower.com/products/tmg07.pdf; Description_: 6.3W AC/DC power supply, 5V fixed output voltage, 1.26A output, 3.0kVAC isolation
pins: 1 AC(N), 2 AC(L), 3 +Vout, 4 -Vout

## TMG07112
designator *  value TMG07112  Reference: PS
7W AC/DC power supply, 12V fixed output voltage, 583mA output, 3.0kVAC isolation; ki_keywords: Traco isolated ac-dc power-supply 62368-1 single; ki_fp_filters: Converter*ACDC*TRACO*TMG*071xx*THT*; Footprint: Converter_ACDC:Converter_ACDC_TRACO_TMG_071xx_THT; Datasheet: https://www.tracopower.com/products/tmg07.pdf; Description_: 7W AC/DC power supply, 12V fixed output voltage, 583mA output, 3.0kVAC isolation
pins: 1 AC(N), 2 AC(L), 3 +Vout, 4 -Vout

## TMG07115
designator *  value TMG07115  Reference: PS
7W AC/DC power supply, 15V fixed output voltage, 466mA output, 3.0kVAC isolation; ki_keywords: Traco isolated ac-dc power-supply 62368-1 single; ki_fp_filters: Converter*ACDC*TRACO*TMG*071xx*THT*; Footprint: Converter_ACDC:Converter_ACDC_TRACO_TMG_071xx_THT; Datasheet: https://www.tracopower.com/products/tmg07.pdf; Description_: 7W AC/DC power supply, 15V fixed output voltage, 466mA output, 3.0kVAC isolation
pins: 1 AC(N), 2 AC(L), 3 +Vout, 4 -Vout

## TMG07124
designator *  value TMG07124  Reference: PS
7W AC/DC power supply, 24V fixed output voltage, 292mA output, 3.0kVAC isolation; ki_keywords: Traco isolated ac-dc power-supply 62368-1 single; ki_fp_filters: Converter*ACDC*TRACO*TMG*071xx*THT*; Footprint: Converter_ACDC:Converter_ACDC_TRACO_TMG_071xx_THT; Datasheet: https://www.tracopower.com/products/tmg07.pdf; Description_: 7W AC/DC power supply, 24V fixed output voltage, 292mA output, 3.0kVAC isolation
pins: 1 AC(N), 2 AC(L), 3 +Vout, 4 -Vout

## TMG15105
designator *  value TMG15105  Reference: PS
13.5W AC/DC power supply, 5V fixed output voltage, 2.7A output, 4.0kVAC isolation; ki_keywords: Traco isolated ac-dc power-supply 62368-1 single; ki_fp_filters: Converter*ACDC*TRACO*TMG*151xx*THT*; Footprint: Converter_ACDC:Converter_ACDC_TRACO_TMG_151xx_THT; Datasheet: https://www.tracopower.com/products/tmg15.pdf; Description_: 13.5W AC/DC power supply, 5V fixed output voltage, 2.7A output, 4.0kVAC isolation
pins: 1 AC(L), 2 AC(N), 3 -Vout, 4 +Vout

## TMG15112
designator *  value TMG15112  Reference: PS
15W AC/DC power supply, 12V fixed output voltage, 1.25A output, 4.0kVAC isolation; ki_keywords: Traco isolated ac-dc power-supply 62368-1 single; ki_fp_filters: Converter*ACDC*TRACO*TMG*151xx*THT*; Footprint: Converter_ACDC:Converter_ACDC_TRACO_TMG_151xx_THT; Datasheet: https://www.tracopower.com/products/tmg15.pdf; Description_: 15W AC/DC power supply, 12V fixed output voltage, 1.25A output, 4.0kVAC isolation
pins: 1 AC(L), 2 AC(N), 3 -Vout, 4 +Vout

## TMG15115
designator *  value TMG15115  Reference: PS
15W AC/DC power supply, 15V fixed output voltage, 1A output, 4.0kVAC isolation; ki_keywords: Traco isolated ac-dc power-supply 62368-1 single; ki_fp_filters: Converter*ACDC*TRACO*TMG*151xx*THT*; Footprint: Converter_ACDC:Converter_ACDC_TRACO_TMG_151xx_THT; Datasheet: https://www.tracopower.com/products/tmg15.pdf; Description_: 15W AC/DC power supply, 15V fixed output voltage, 1A output, 4.0kVAC isolation
pins: 1 AC(L), 2 AC(N), 3 -Vout, 4 +Vout

## TMG15124
designator *  value TMG15124  Reference: PS
15W AC/DC power supply, 24V fixed output voltage, 625mA output, 4.0kVAC isolation; ki_keywords: Traco isolated ac-dc power-supply 62368-1 single; ki_fp_filters: Converter*ACDC*TRACO*TMG*151xx*THT*; Footprint: Converter_ACDC:Converter_ACDC_TRACO_TMG_151xx_THT; Datasheet: https://www.tracopower.com/products/tmg15.pdf; Description_: 15W AC/DC power supply, 24V fixed output voltage, 625mA output, 4.0kVAC isolation
pins: 1 AC(L), 2 AC(N), 3 -Vout, 4 +Vout

## TMLM04103
designator *  value TMLM04103  Reference: PS
3.3V 1200mA AC/DC low noise power module; ki_keywords: Traco Power 4W AC-DC module power supply; ki_fp_filters: Converter*ACDC*TRACO*TMLM*04*; Footprint: Converter_ACDC:Converter_ACDC_TRACO_TMLM-04_THT; Datasheet: https://www.tracopower.com/products/tmlm.pdf; Description_: 3.3V 1200mA AC/DC low noise power module
pins: 2 Vout+, 3 Vout-, 5 AC(L), 6 AC(N)

## TMLM04105
designator *  value TMLM04105  Reference: PS
5V 800mA AC/DC low noise power module; ki_keywords: Traco Power 4W AC-DC module power supply; ki_fp_filters: Converter*ACDC*TRACO*TMLM*04*; Footprint: Converter_ACDC:Converter_ACDC_TRACO_TMLM-04_THT; Datasheet: https://www.tracopower.com/products/tmlm.pdf; Description_: 5V 800mA AC/DC low noise power module
pins: 2 Vout+, 3 Vout-, 5 AC(L), 6 AC(N)

## TMLM04109
designator *  value TMLM04109  Reference: PS
9V 444mA AC/DC low noise power module; ki_keywords: Traco Power 4W AC-DC module power supply; ki_fp_filters: Converter*ACDC*TRACO*TMLM*04*; Footprint: Converter_ACDC:Converter_ACDC_TRACO_TMLM-04_THT; Datasheet: https://www.tracopower.com/products/tmlm.pdf; Description_: 9V 444mA AC/DC low noise power module
pins: 2 Vout+, 3 Vout-, 5 AC(L), 6 AC(N)

## TMLM04112
designator *  value TMLM04112  Reference: PS
12V 333mA AC/DC low noise power module; ki_keywords: Traco Power 4W AC-DC module power supply; ki_fp_filters: Converter*ACDC*TRACO*TMLM*04*; Footprint: Converter_ACDC:Converter_ACDC_TRACO_TMLM-04_THT; Datasheet: https://www.tracopower.com/products/tmlm.pdf; Description_: 12V 333mA AC/DC low noise power module
pins: 2 Vout+, 3 Vout-, 5 AC(L), 6 AC(N)

## TMLM04115
designator *  value TMLM04115  Reference: PS
15V 267mA AC/DC low noise power module; ki_keywords: Traco Power 4W AC-DC module power supply; ki_fp_filters: Converter*ACDC*TRACO*TMLM*04*; Footprint: Converter_ACDC:Converter_ACDC_TRACO_TMLM-04_THT; Datasheet: https://www.tracopower.com/products/tmlm.pdf; Description_: 15V 267mA AC/DC low noise power module
pins: 2 Vout+, 3 Vout-, 5 AC(L), 6 AC(N)

## TMLM04124
designator *  value TMLM04124  Reference: PS
24V 167mA AC/DC low noise power module; ki_keywords: Traco Power 4W AC-DC module power supply; ki_fp_filters: Converter*ACDC*TRACO*TMLM*04*; Footprint: Converter_ACDC:Converter_ACDC_TRACO_TMLM-04_THT; Datasheet: https://www.tracopower.com/products/tmlm.pdf; Description_: 24V 167mA AC/DC low noise power module
pins: 2 Vout+, 3 Vout-, 5 AC(L), 6 AC(N)

## TMLM04225
designator *  value TMLM04225  Reference: PS
12V 250mA / 5V 120mA AC/DC dual output, low noise power module; ki_keywords: Traco Power 4W AC-DC module power supply; ki_fp_filters: Converter*ACDC*TRACO*TMLM*04*; Footprint: Converter_ACDC:Converter_ACDC_TRACO_TMLM-04_THT; Datasheet: https://www.tracopower.com/products/tmlm.pdf; Description_: 12V 250mA / 5V 120mA AC/DC dual output, low noise power module
pins: 2 Vout1, 3 Common, 4 Vout2, 5 AC(L), 6 AC(N)

## TMLM04253
designator *  value TMLM04253  Reference: PS
5V 600mA / 3.3V 150mA AC/DC dual output, low noise power module; ki_keywords: Traco Power 4W AC-DC module power supply; ki_fp_filters: Converter*ACDC*TRACO*TMLM*04*; Footprint: Converter_ACDC:Converter_ACDC_TRACO_TMLM-04_THT; Datasheet: https://www.tracopower.com/products/tmlm.pdf; Description_: 5V 600mA / 3.3V 150mA AC/DC dual output, low noise power module
pins: 2 Vout1, 3 Common, 4 Vout2, 5 AC(L), 6 AC(N)

## TMLM05103
designator *  value TMLM05103  Reference: PS
3.3V 1250mA AC/DC low noise power module; ki_keywords: Traco Power 5W AC-DC module power supply; ki_fp_filters: Converter*ACDC*TRACO*TMLM*05*; Footprint: Converter_ACDC:Converter_ACDC_TRACO_TMLM-05_THT; Datasheet: https://www.tracopower.com/products/tmlm.pdf; Description_: 3.3V 1250mA AC/DC low noise power module
pins: 1 Vout-, 2 Vout+, 3 AC, 4 AC

## TMLM05105
designator *  value TMLM05105  Reference: PS
5V 1000mA AC/DC low noise power module; ki_keywords: Traco Power 5W AC-DC module power supply; ki_fp_filters: Converter*ACDC*TRACO*TMLM*05*; Footprint: Converter_ACDC:Converter_ACDC_TRACO_TMLM-05_THT; Datasheet: https://www.tracopower.com/products/tmlm.pdf; Description_: 5V 1000mA AC/DC low noise power module
pins: 1 Vout-, 2 Vout+, 3 AC, 4 AC

## TMLM05112
designator *  value TMLM05112  Reference: PS
12V 420mA AC/DC low noise power module; ki_keywords: Traco Power 5W AC-DC module power supply; ki_fp_filters: Converter*ACDC*TRACO*TMLM*05*; Footprint: Converter_ACDC:Converter_ACDC_TRACO_TMLM-05_THT; Datasheet: https://www.tracopower.com/products/tmlm.pdf; Description_: 12V 420mA AC/DC low noise power module
pins: 1 Vout-, 2 Vout+, 3 AC, 4 AC

## TMLM05115
designator *  value TMLM05115  Reference: PS
15V 333mA AC/DC low noise power module; ki_keywords: Traco Power 5W AC-DC module power supply; ki_fp_filters: Converter*ACDC*TRACO*TMLM*05*; Footprint: Converter_ACDC:Converter_ACDC_TRACO_TMLM-05_THT; Datasheet: https://www.tracopower.com/products/tmlm.pdf; Description_: 15V 333mA AC/DC low noise power module
pins: 1 Vout-, 2 Vout+, 3 AC, 4 AC

## TMLM05124
designator *  value TMLM05124  Reference: PS
24V 230mA AC/DC low noise power module; ki_keywords: Traco Power 5W AC-DC module power supply; ki_fp_filters: Converter*ACDC*TRACO*TMLM*05*; Footprint: Converter_ACDC:Converter_ACDC_TRACO_TMLM-05_THT; Datasheet: https://www.tracopower.com/products/tmlm.pdf; Description_: 24V 230mA AC/DC low noise power module
pins: 1 Vout-, 2 Vout+, 3 AC, 4 AC

## TMLM10103
designator *  value TMLM10103  Reference: PS
3.3V 2500mA AC/DC low noise power module; ki_keywords: Traco Power 10W AC-DC module power supply; ki_fp_filters: Converter*ACDC*TRACO*TMLM*10*; Footprint: Converter_ACDC:Converter_ACDC_TRACO_TMLM-10-20_THT; Datasheet: https://www.tracopower.com/products/tmlm.pdf; Description_: 3.3V 2500mA AC/DC low noise power module
pins: 1 Vout-, 2 Vout+, 3 AC, 4 AC

## TMLM10105
designator *  value TMLM10105  Reference: PS
5V 2000mA AC/DC low noise power module; ki_keywords: Traco Power 10W AC-DC module power supply; ki_fp_filters: Converter*ACDC*TRACO*TMLM*10*; Footprint: Converter_ACDC:Converter_ACDC_TRACO_TMLM-10-20_THT; Datasheet: https://www.tracopower.com/products/tmlm.pdf; Description_: 5V 2000mA AC/DC low noise power module
pins: 1 Vout-, 2 Vout+, 3 AC, 4 AC

## TMLM10112
designator *  value TMLM10112  Reference: PS
12V 833mA AC/DC low noise power module; ki_keywords: Traco Power 10W AC-DC module power supply; ki_fp_filters: Converter*ACDC*TRACO*TMLM*10*; Footprint: Converter_ACDC:Converter_ACDC_TRACO_TMLM-10-20_THT; Datasheet: https://www.tracopower.com/products/tmlm.pdf; Description_: 12V 833mA AC/DC low noise power module
pins: 1 Vout-, 2 Vout+, 3 AC, 4 AC

## TMLM10115
designator *  value TMLM10115  Reference: PS
15V 667mA AC/DC low noise power module; ki_keywords: Traco Power 10W AC-DC module power supply; ki_fp_filters: Converter*ACDC*TRACO*TMLM*10*; Footprint: Converter_ACDC:Converter_ACDC_TRACO_TMLM-10-20_THT; Datasheet: https://www.tracopower.com/products/tmlm.pdf; Description_: 15V 667mA AC/DC low noise power module
pins: 1 Vout-, 2 Vout+, 3 AC, 4 AC

## TMLM10124
designator *  value TMLM10124  Reference: PS
24V 417mA AC/DC low noise power module; ki_keywords: Traco Power 10W AC-DC module power supply; ki_fp_filters: Converter*ACDC*TRACO*TMLM*10*; Footprint: Converter_ACDC:Converter_ACDC_TRACO_TMLM-10-20_THT; Datasheet: https://www.tracopower.com/products/tmlm.pdf; Description_: 24V 417mA AC/DC low noise power module
pins: 1 Vout-, 2 Vout+, 3 AC, 4 AC

## TMLM20103
designator *  value TMLM20103  Reference: PS
3.3V 3600mA AC/DC low noise power module; ki_keywords: Traco Power 20W AC-DC module power supply; ki_fp_filters: Converter*ACDC*TRACO*TMLM*10*; Footprint: Converter_ACDC:Converter_ACDC_TRACO_TMLM-10-20_THT; Datasheet: https://www.tracopower.com/products/tmlm.pdf; Description_: 3.3V 3600mA AC/DC low noise power module
pins: 1 Vout-, 2 Vout+, 3 AC, 4 AC

## TMLM20105
designator *  value TMLM20105  Reference: PS
5V 3600mA AC/DC low noise power module; ki_keywords: Traco Power 20W AC-DC module power supply; ki_fp_filters: Converter*ACDC*TRACO*TMLM*10*; Footprint: Converter_ACDC:Converter_ACDC_TRACO_TMLM-10-20_THT; Datasheet: https://www.tracopower.com/products/tmlm.pdf; Description_: 5V 3600mA AC/DC low noise power module
pins: 1 Vout-, 2 Vout+, 3 AC, 4 AC

## TMLM20112
designator *  value TMLM20112  Reference: PS
12V 1660mA AC/DC low noise power module; ki_keywords: Traco Power 20W AC-DC module power supply; ki_fp_filters: Converter*ACDC*TRACO*TMLM*10*; Footprint: Converter_ACDC:Converter_ACDC_TRACO_TMLM-10-20_THT; Datasheet: https://www.tracopower.com/products/tmlm.pdf; Description_: 12V 1660mA AC/DC low noise power module
pins: 1 Vout-, 2 Vout+, 3 AC, 4 AC

## TMLM20115
designator *  value TMLM20115  Reference: PS
12V 1330mA AC/DC low noise power module; ki_keywords: Traco Power 20W AC-DC module power supply; ki_fp_filters: Converter*ACDC*TRACO*TMLM*10*; Footprint: Converter_ACDC:Converter_ACDC_TRACO_TMLM-10-20_THT; Datasheet: https://www.tracopower.com/products/tmlm.pdf; Description_: 12V 1330mA AC/DC low noise power module
pins: 1 Vout-, 2 Vout+, 3 AC, 4 AC

## TMLM20124
designator *  value TMLM20124  Reference: PS
24V 833mA AC/DC low noise power module; ki_keywords: Traco Power 20W AC-DC module power supply; ki_fp_filters: Converter*ACDC*TRACO*TMLM*10*; Footprint: Converter_ACDC:Converter_ACDC_TRACO_TMLM-10-20_THT; Datasheet: https://www.tracopower.com/products/tmlm.pdf; Description_: 24V 833mA AC/DC low noise power module
pins: 1 Vout-, 2 Vout+, 3 AC, 4 AC

## TMPW5-103
designator *  value TMPW5-103  Reference: PS
5W AC/DC power supply, 3.3V fixed output voltage, 1515mA output, 4.0kVAC isolation; ki_keywords: Traco isolated ac-dc power-supply 60335-1 62368-1 single; ki_fp_filters: Converter*ACDC*TRACO*TMPW5*THT*; Footprint: Converter_ACDC:Converter_ACDC_TRACO_TMPW5-1xx_THT; Datasheet: https://www.tracopower.com/products/tmpw5.pdf; Description_: 5W AC/DC power supply, 3.3V fixed output voltage, 1515mA output, 4.0kVAC isolation
pins: 1 NC, 2 +Vout, 3 -Vout, 4 AC(L), 5 AC(N)

## TMPW5-105
designator *  value TMPW5-105  Reference: PS
5W AC/DC power supply, 5V fixed output voltage, 1000mA output, 4.0kVAC isolation; ki_keywords: Traco isolated ac-dc power-supply 60335-1 62368-1 single; ki_fp_filters: Converter*ACDC*TRACO*TMPW5*THT*; Footprint: Converter_ACDC:Converter_ACDC_TRACO_TMPW5-1xx_THT; Datasheet: https://www.tracopower.com/products/tmpw5.pdf; Description_: 5W AC/DC power supply, 5V fixed output voltage, 1000mA output, 4.0kVAC isolation
pins: 1 NC, 2 +Vout, 3 -Vout, 4 AC(L), 5 AC(N)

## TMPW5-112
designator *  value TMPW5-112  Reference: PS
5W AC/DC power supply, 12V fixed output voltage, 420mA output, 4.0kVAC isolation; ki_keywords: Traco isolated ac-dc power-supply 60335-1 62368-1 single; ki_fp_filters: Converter*ACDC*TRACO*TMPW5*THT*; Footprint: Converter_ACDC:Converter_ACDC_TRACO_TMPW5-1xx_THT; Datasheet: https://www.tracopower.com/products/tmpw5.pdf; Description_: 5W AC/DC power supply, 12V fixed output voltage, 420mA output, 4.0kVAC isolation
pins: 1 NC, 2 +Vout, 3 -Vout, 4 AC(L), 5 AC(N)

## TMPW5-124
designator *  value TMPW5-124  Reference: PS
5W AC/DC power supply, 24V fixed output voltage, 210mA output, 4.0kVAC isolation; ki_keywords: Traco isolated ac-dc power-supply 60335-1 62368-1 single; ki_fp_filters: Converter*ACDC*TRACO*TMPW5*THT*; Footprint: Converter_ACDC:Converter_ACDC_TRACO_TMPW5-1xx_THT; Datasheet: https://www.tracopower.com/products/tmpw5.pdf; Description_: 5W AC/DC power supply, 24V fixed output voltage, 210mA output, 4.0kVAC isolation
pins: 1 NC, 2 +Vout, 3 -Vout, 4 AC(L), 5 AC(N)

## TMPW10-105
designator *  value TMPW10-105  Reference: PS
10W AC/DC power supply, 5V fixed output voltage, 2A output, 4.0kVAC isolation; ki_keywords: Traco isolated ac-dc power-supply 60335-1 62368-1 single; ki_fp_filters: Converter*ACDC*TRACO*TMPW10*1xx*THT*; Footprint: Converter_ACDC:Converter_ACDC_TRACO_TMPW10_1xx_THT; Datasheet: https://www.tracopower.com/products/tmpw10.pdf; Description_: 10W AC/DC power supply, 5V fixed output voltage, 2A output, 4.0kVAC isolation
pins: 1 +Vout, 2 -Vout, 3 AC(L), 4 AC(N), 5 NC

## TMPW10-112
designator *  value TMPW10-112  Reference: PS
10W AC/DC power supply, 12V fixed output voltage, 833mA output, 4.0kVAC isolation; ki_keywords: Traco isolated ac-dc power-supply 60335-1 62368-1 single; ki_fp_filters: Converter*ACDC*TRACO*TMPW10*1xx*THT*; Footprint: Converter_ACDC:Converter_ACDC_TRACO_TMPW10_1xx_THT; Datasheet: https://www.tracopower.com/products/tmpw10.pdf; Description_: 10W AC/DC power supply, 12V fixed output voltage, 833mA output, 4.0kVAC isolation
pins: 1 +Vout, 2 -Vout, 3 AC(L), 4 AC(N), 5 NC

## TMPW10-115
designator *  value TMPW10-115  Reference: PS
10W AC/DC power supply, 15V fixed output voltage, 667mA output, 4.0kVAC isolation; ki_keywords: Traco isolated ac-dc power-supply 60335-1 62368-1 single; ki_fp_filters: Converter*ACDC*TRACO*TMPW10*1xx*THT*; Footprint: Converter_ACDC:Converter_ACDC_TRACO_TMPW10_1xx_THT; Datasheet: https://www.tracopower.com/products/tmpw10.pdf; Description_: 10W AC/DC power supply, 15V fixed output voltage, 667mA output, 4.0kVAC isolation
pins: 1 +Vout, 2 -Vout, 3 AC(L), 4 AC(N), 5 NC

## TMPW10-124
designator *  value TMPW10-124  Reference: PS
10W AC/DC power supply, 24V fixed output voltage, 417mA output, 4.0kVAC isolation; ki_keywords: Traco isolated ac-dc power-supply 60335-1 62368-1 single; ki_fp_filters: Converter*ACDC*TRACO*TMPW10*1xx*THT*; Footprint: Converter_ACDC:Converter_ACDC_TRACO_TMPW10_1xx_THT; Datasheet: https://www.tracopower.com/products/tmpw10.pdf; Description_: 10W AC/DC power supply, 24V fixed output voltage, 417mA output, 4.0kVAC isolation
pins: 1 +Vout, 2 -Vout, 3 AC(L), 4 AC(N), 5 NC

## TMPW25-105
designator *  value TMPW25-105  Reference: PS
20W AC/DC power supply, 5.1V fixed output voltage, 3922mA output, 4.0kVAC isolation; ki_keywords: Traco isolated ac-dc power-supply 60335-1 62368-1 single; ki_fp_filters: Converter*ACDC*TRACO*TMPW25*1xx*THT*; Footprint: Converter_ACDC:Converter_ACDC_TRACO_TMPW25_1xx_THT; Datasheet: https://www.tracopower.com/products/tmpw25.pdf; Description_: 20W AC/DC power supply, 5.1V fixed output voltage, 3922mA output, 4.0kVAC isolation
pins: 1 AC(L), 2 AC(N), 3 +Vout, 4 -Vout

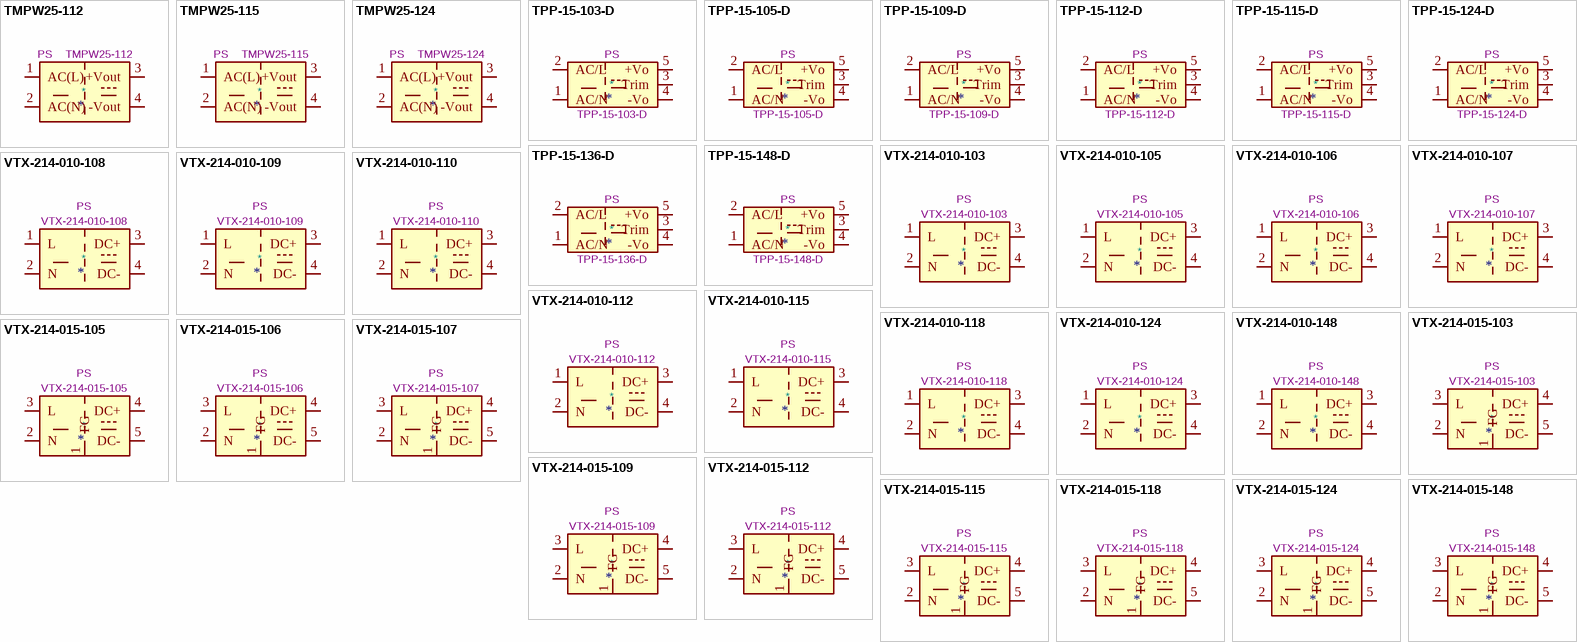
[diagram p5: symbols TMPW25-112 to VTX-214-015-148]

## TMPW25-112
designator *  value TMPW25-112  Reference: PS
25W AC/DC power supply, 12V fixed output voltage, 2083mA output, 4.0kVAC isolation; ki_keywords: Traco isolated ac-dc power-supply 60335-1 62368-1 single; ki_fp_filters: Converter*ACDC*TRACO*TMPW25*1xx*THT*; Footprint: Converter_ACDC:Converter_ACDC_TRACO_TMPW25_1xx_THT; Datasheet: https://www.tracopower.com/products/tmpw25.pdf; Description_: 25W AC/DC power supply, 12V fixed output voltage, 2083mA output, 4.0kVAC isolation
pins: 1 AC(L), 2 AC(N), 3 +Vout, 4 -Vout

## TMPW25-115
designator *  value TMPW25-115  Reference: PS
25W AC/DC power supply, 15V fixed output voltage, 1666mA output, 4.0kVAC isolation; ki_keywords: Traco isolated ac-dc power-supply 60335-1 62368-1 single; ki_fp_filters: Converter*ACDC*TRACO*TMPW25*1xx*THT*; Footprint: Converter_ACDC:Converter_ACDC_TRACO_TMPW25_1xx_THT; Datasheet: https://www.tracopower.com/products/tmpw25.pdf; Description_: 25W AC/DC power supply, 15V fixed output voltage, 1666mA output, 4.0kVAC isolation
pins: 1 AC(L), 2 AC(N), 3 +Vout, 4 -Vout

## TMPW25-124
designator *  value TMPW25-124  Reference: PS
25W AC/DC power supply, 24V fixed output voltage, 1042mA output, 4.0kVAC isolation; ki_keywords: Traco isolated ac-dc power-supply 60335-1 62368-1 single; ki_fp_filters: Converter*ACDC*TRACO*TMPW25*1xx*THT*; Footprint: Converter_ACDC:Converter_ACDC_TRACO_TMPW25_1xx_THT; Datasheet: https://www.tracopower.com/products/tmpw25.pdf; Description_: 25W AC/DC power supply, 24V fixed output voltage, 1042mA output, 4.0kVAC isolation
pins: 1 AC(L), 2 AC(N), 3 +Vout, 4 -Vout